# Altium schematic symbol library Symbols.SchLib: 31 symbols
Pins are listed as number, name and electrical type; pins without a type are passive.

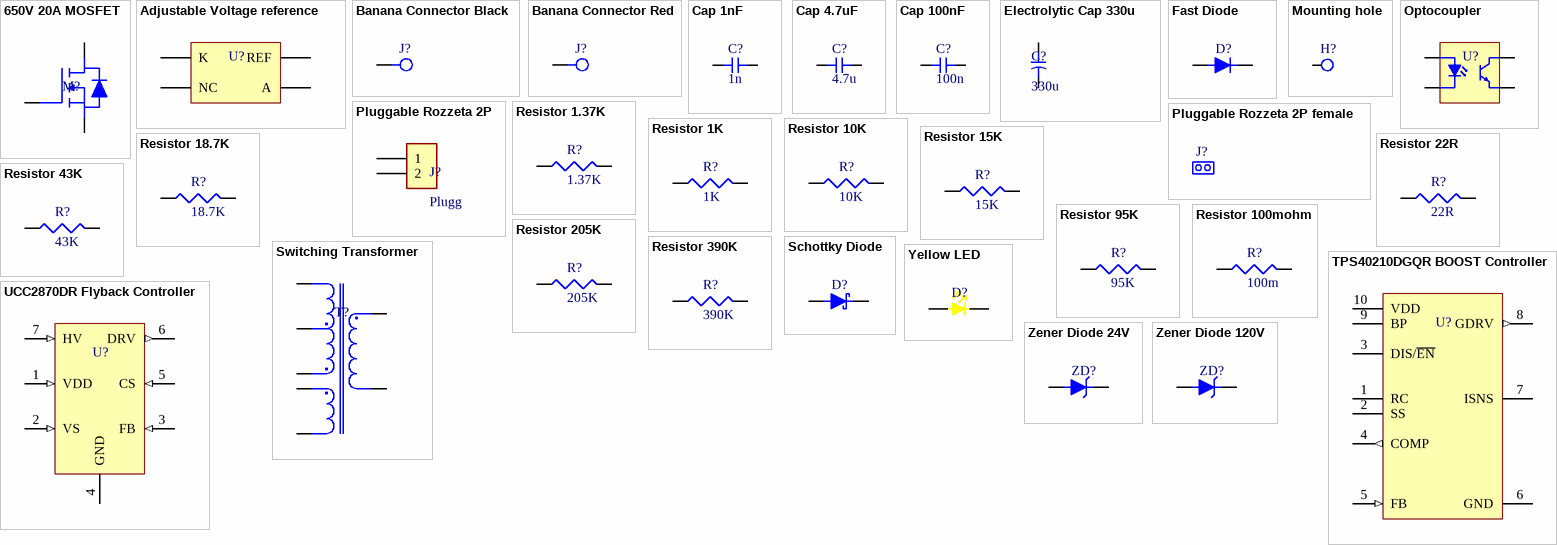
[diagram p0: symbols 650V 20A MOSFET to Zener Diode 120V]

## 650V 20A MOSFET
designator M?  (value not drawn)
650V 20A 190mΩ 126W 3.5V TO-263 MOSFETs ROHS; Manufacturer: ANHI; Mfr. part #: ASB65R220E; Supplier: LCSC ELECTRONICS; Supplier part #: C18199767; Price: 1.0433
footprint TO-263
pins: 1 Gate, 2 Drain, 3 Source

## Adjustable Voltage reference
designator U?, comment TL431IDBVR  (value not drawn)
2.495V~36V ±2.2% 100mA Adjustable SOT-23-5 Voltage Reference ROHS; Manufacturer: Texas Instruments; Mfr. part #: TL431IDBVR; Supplier: LCSC ELECTRONICS; Supplier part #: C350567; Price: 0.1527
footprint SOT-23-5
pins: 1 NC, 3 K, 4 REF, 5 A

## Banana Connector Black
designator J?  (value not drawn)
Terminal Black Banana Connectors / Alligator Clips ROHS; Manufacturer: Changzhou Amass Elec; Mfr. part #: 24.247.2; Supplier: LCSC ELECTRONICS; Supplier part #: C106272; Price: 0.1626
footprint Bannana Connector Black
pins: 1

## Banana Connector Red
designator J?  (value not drawn)
Terminal Red Banana Connectors / Alligator Clips ROHS; Manufacturer: Changzhou Amass Elec; Mfr. part #: 24.247.1; Supplier: LCSC ELECTRONICS; Supplier part #: C106273; Price: 0.1796
footprint Bannana Connector Red
pins: 1

## Cap 1nF
designator C?, comment 1n
50V 1nF X7R ±10% 0603 Multilayer Ceramic Capacitors MLCC - SMD/SMT ROHS; Manufacturer: YAGEO; Mfr. part #: CC0603KRX7R9BB102; Supplier: LCSC ELECTRONICS; Supplier part #: C100040; Price: 0.002
footprint 0603-CAP
pins: 1, 2

## Cap 4.7uF
designator C?, comment 4.7u
50V 4.7uF X7R ±10% 0805 Multilayer Ceramic Capacitors MLCC - SMD/SMT ROHS; Manufacturer: FH (Guangdong Fenghua Advanced Tech); Mfr. part #: 0805B475K500NT; Supplier: LCSC ELECTRONICS; Supplier part #: C2991173; Price: 0.0363
footprint 0805-CAP
pins: 1, 2

## Cap 100nF
designator C?, comment 100n
50V 100nF X7R ±10% 0603 Multilayer Ceramic Capacitors MLCC - SMD/SMT ROHS; Manufacturer: YAGEO; Mfr. part #: CC0603KRX7R9BB104; Supplier: LCSC ELECTRONICS; Supplier part #: C14663; Price: 0.002
footprint 0603-CAP
pins: 1, 2

## Electrolytic Cap 330u
designator C?, comment 330u
330uF 100V Plugin,D13xL26mm Aluminum Electrolytic Capacitors - Leaded ROHS; Manufacturer: HRK; Mfr. part #: CD2883372AM1326VFL; Supplier: LCSC ELECTRONICS; Supplier part #: C7493849; Price: 0.1684
footprint Electrolytic Capacitor D13 P5 H25
pins: 1, 2

## Fast Diode
designator D?  (value not drawn)
1.7V@8A 80ns Independent Type 8A 1kV SMC Fast Recovery / High Efficiency Diodes ROHS; Manufacturer: Shandong Jingdao Microelectronics; Mfr. part #: US8MC; Supplier: LCSC ELECTRONICS; Supplier part #: C382940; Price: 0.0613
footprint SMC diode
pins: 1 Cathode, 2 Anode

## Mounting hole
designator H?  (value not drawn)  (no BOM)
footprint Monting Hole
pins: 1

## Optocoupler
designator U?  (value not drawn)
80V 5kV 50mA 400mV@2.4mA,8mA 1 5V 1.15V DC SMD-4P Transistor, Photovoltaic Output Optoisolators ROHS; Manufacturer: TOSHIBA; Mfr. part #: TLP785(GB-TP6,F(C; Supplier: LCSC ELECTRONICS; Supplier part #: C45445; Price: 0.1007
footprint SMD-4P Optocoupler
pins: 1, 2, 3, 4

## Pluggable Rozzeta 2P
designator J?, comment Plugg
2 Bend 1 5.08mm 1x2P Green Board Edge/Receptacle-Open Push-Pull,P=5.08mm Pluggable System Terminal Block; Manufacturer: Ningbo Kangnex Elec; Mfr. part #: WJ2EDGR-5.08-2P; Supplier: LCSC ELECTRONICS; Supplier part #: C8383; Price: 0.0342
footprint Pluggable Terminal Block 2
pins: 1, 2

## Pluggable Rozzeta 2P female
designator J?  (graphical)
-40℃~+105℃ 2.5 1 14~28 5.08mm 450V 20A 2 Phosphor Bronze 1x2P Male Plug P=5.08mm Pluggable System Terminal Block ROHS; Manufacturer: Ningbo Kangnex Elec; Mfr. part #: WJ2EDGK-5.08-2P; Supplier: LCSC ELECTRONICS; Supplier part #: C71370; Price: 0.1319

## Resistor 1.37K
designator R?, comment 1.37K
100mW Thick Film Resistors 75V ±100ppm/℃ ±1% 1.37kΩ 0603 Chip Resistor - Surface Mount ROHS; Manufacturer: FOJAN; Mfr. part #: FRC0603F1371TS; Supplier: LCSC ELECTRONICS; Supplier part #: C2933142; Price: 0.0008
footprint 0603-RES
pins: 1, 2

## Resistor 1K
designator R?, comment 1K
100mW Thick Film Resistors 75V ±100ppm/℃ ±5% 1kΩ 0603 Chip Resistor - Surface Mount ROHS; Manufacturer: FOJAN; Mfr. part #: FRC0603J102 TS; Supplier: LCSC ELECTRONICS; Supplier part #: C2907113; Price: 0.0008
footprint 0603-RES
pins: 1, 2

## Resistor 10K
designator R?, comment 10K
100mW Thick Film Resistors 75V ±100ppm/℃ ±1% 10kΩ 0603 Chip Resistor - Surface Mount ROHS; Manufacturer: UNI-ROYAL(Uniroyal Elec); Mfr. part #: 0603WAF1002T5E; Supplier: LCSC ELECTRONICS; Supplier part #: C25804; Price: 0.0009
footprint 0603-RES
pins: 1, 2

## Resistor 15K
designator R?, comment 15K
100mW Thick Film Resistors 75V ±100ppm/℃ ±1% 15kΩ 0603 Chip Resistor - Surface Mount ROHS; Manufacturer: FOJAN; Mfr. part #: FRC0603F1502TS; Supplier: LCSC ELECTRONICS; Supplier part #: C2906995; Price: 0.0009
footprint 0603-RES
pins: 1, 2

## Resistor 18.7K
designator R?, comment 18.7K
100mW Thick Film Resistors 75V ±100ppm/℃ ±1% 18.7kΩ 0603 Chip Resistor - Surface Mount ROHS; Manufacturer: YAGEO; Mfr. part #: RC0603FR-0718K7L; Supplier: LCSC ELECTRONICS; Supplier part #: C273772; Price: 0.0012
footprint 0603-RES
pins: 1, 2

## Resistor 22R
designator R?, comment 22R
100mW Thick Film Resistors 75V ±100ppm/℃ ±5% 22Ω 0603 Chip Resistor - Surface Mount ROHS; Manufacturer: FOJAN; Mfr. part #: FRC0603J220 TS; Supplier: LCSC ELECTRONICS; Supplier part #: C2907129; Price: 0.0007
footprint 0603-RES
pins: 1, 2

## Resistor 43K
designator R?, comment 43K
100mW Thick Film Resistors 75V ±100ppm/℃ ±1% 43kΩ 0603 Chip Resistor - Surface Mount ROHS; Manufacturer: FOJAN; Mfr. part #: FRC0603F4302TS; Supplier: LCSC ELECTRONICS; Supplier part #: C2907038; Price: 0.0008
footprint 0603-RES
pins: 1, 2

## Resistor 95K
designator R?, comment 95K
100mW Thick Film Resistors 75V ±100ppm/℃ ±1% 95.3kΩ 0603 Chip Resistor - Surface Mount ROHSFOJAN; Manufacturer: FOJAN; Mfr. part #: FRC0603F9532TS; Supplier: LCSC ELECTRONICS; Supplier part #: C2907078; Price: 0.0009
footprint 0603-RES
pins: 1, 2

## Resistor 100mohm
designator R?, comment 100m
100mW Thick Film Resistors 75V ±800ppm/℃ ±1% 140mΩ 0603 Chip Resistor - Surface Mount ROHS; Manufacturer: UNI-ROYAL(Uniroyal Elec); Mfr. part #: 0603WAJ010KT5E; Supplier: LCSC ELECTRONICS; Supplier part #: C247025; Price: 0.003
footprint 0603-RES
pins: 1, 2

## Resistor 205K
designator R?, comment 205K
100mW Thick Film Resistors 75V ±100ppm/℃ ±1% 205kΩ 0603 Chip Resistor - Surface Mount ROHS; Manufacturer: FOJAN; Mfr. part #: FRC0603F2053TS; Supplier: LCSC ELECTRONICS; Supplier part #: C5126104; Price: 0.0008
footprint 0603-RES
pins: 1, 2

## Resistor 390K
designator R?, comment 390K
100mW Thick Film Resistors 75V ±100ppm/℃ ±5% 390kΩ 0603 Chip Resistor - Surface Mount ROHS; Manufacturer: FOJAN; Mfr. part #: FRC0603J394 TS; Supplier: LCSC ELECTRONICS; Supplier part #: C2907158; Price: 0.0007
footprint 0603-RES
pins: 1, 2

## Schottky Diode
designator D?  (value not drawn)
100V Independent Type 850mV@5A 5A SMA(DO-214AC) Schottky Diodes ROHS; Manufacturer: TWGMC; Mfr. part #: SS510; Supplier: LCSC ELECTRONICS; Supplier part #: C727067; Price: 0.0458
footprint SMA(DO-214AC)
pins: 1 Cathode, 2 Anode

## Switching Transformer
designator T?, comment 750343068  (value not drawn)
Power Transformers MID-OLTI UCC28740 230 uH 60 W; Manufacturer: Wurth Elektronik; Mfr. part #: 750343068; Supplier: Mouser Electronics; Supplier part #: 710-750343068; Price: 11.13
footprint 29.2x30.35 Transformer
pins: 1, 2, 3, 6, 7, 10, 12

## TPS40210DGQR BOOST Controller
designator U?, comment TPS40210DGQR  (value not drawn)
4.5V~52V 6A MSOP-10-EP DC-DC Converters ROHS /; Manufacturer: Texas Instruments; Mfr. part #: TPS40210DGQR; Supplier: LCSC ELECTRONICS; Supplier part #: C14728; Price: 0.61
pins: 1 RC, 2 SS, 3 DIS/~{EN}, 4 COMP (out), 5 FB (in), 6 GND (power), 7 ISNS, 8 GDRV (out), 9 BP (power), 10 VDD (power)

## UCC2870DR Flyback Controller
designator U?, comment UCC2870DR  (value not drawn)
170Hz~100kHz 9V~35V SOIC-7 AC-DC Controllers and Regulators ROHS; Manufacturer: Texas Instruments; Mfr. part #: UCC28740DR; Supplier: LCSC ELECTRONICS; Supplier part #: C182073; Price: 0.7506
footprint SOIC-7
pins: 1 VDD (in), 2 VS (in), 3 FB (in), 4 GND (power), 5 CS (in), 6 DRV (out), 7 HV (in)

## Yellow LED
designator D?
2-Yellow lens-30℃~+85℃ Positive post White 120° 80mW 0805 Light Emitting Diodes (LED) ROHS; Manufacturer: XINGLIGHT; Mfr. part #: XL-2012UWC; supplier: LCSC ELECTRONICS; Supplier part #: C965818; Price: 0.0092
footprint yellow led
pins: 1, 2

## Zener Diode 24V
designator ZD?  (value not drawn)
Independent Type 22.8V~26V 1W 24V SMA(DO-214AC) Zener Diodes ROHS; Manufacturer: MDD(Microdiode Semiconductor); Mfr. part #: 1SMA4749A; Supplier: LCSC ELECTRONICS; Supplier part #: C173489; Price: 0.0392
footprint SMA(DO-214AC)
pins: 1 Cathode, 2 Anode

## Zener Diode 120V
designator ZD?  (value not drawn)
Independent Type 114V~126V 3W 120V SMB Zener Diodes ROHS; Manufacturer: LGE; Mfr. part #: 3SMB5951B; Supplier: LCSC ELECTRONICS; Supplier part #: C2983228; Price: 0.0722
footprint SMB Zener diode
pins: 1 Cathode, 2 Anode